# Altium schematic symbol library pin.SchLib: 1 symbol
Pins are listed as number, name and electrical type; pins without a type are passive.

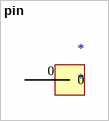
[diagram p0: symbol pin]

## pin
designator *
footprint PCBCOMPONENT_1
pins: 0